# Altium schematic symbol library 4684.SchLib: 1 symbol
Pins are listed as number, name and electrical type; pins without a type are passive.

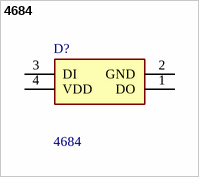
[diagram p0: symbol 4684]

## 4684
designator D?
Adafruit Accessories NeoPixel Nano 2020 RGB LEDs - 10-pack - WS2812B; Geometry.Height: 0.84mm; Mouser Part Number: 485-4684; Mouser Price/Stock: https://www.mouser.co.uk/ProductDetail/Adafruit/4684?qs=DPoM0jnrROWIv9%2FMCIm5vw%3D%3D; Manufacturer_Name: Adafruit; Manufacturer_Part_Number: 4684; Datasheet Link: https://cdn-shop.adafruit.com/product-files/4684/4684_WS2812B-2020_V1.3_EN.pdf
footprint 4684
pins: 1 DO, 2 GND, 3 DI, 4 VDD